# Altium footprint library Power Module.PcbLib: 1 footprints
Each footprint in its own frame and in the unit in brackets; x right, y up, seen from the top. Pads: shape width x height; smd on the part's side, far side on the other; paste and mask are expansions set on the pad; w line width, h text height; cw(c..) or ccw(c..) is an arc to the next point about the centre after c.
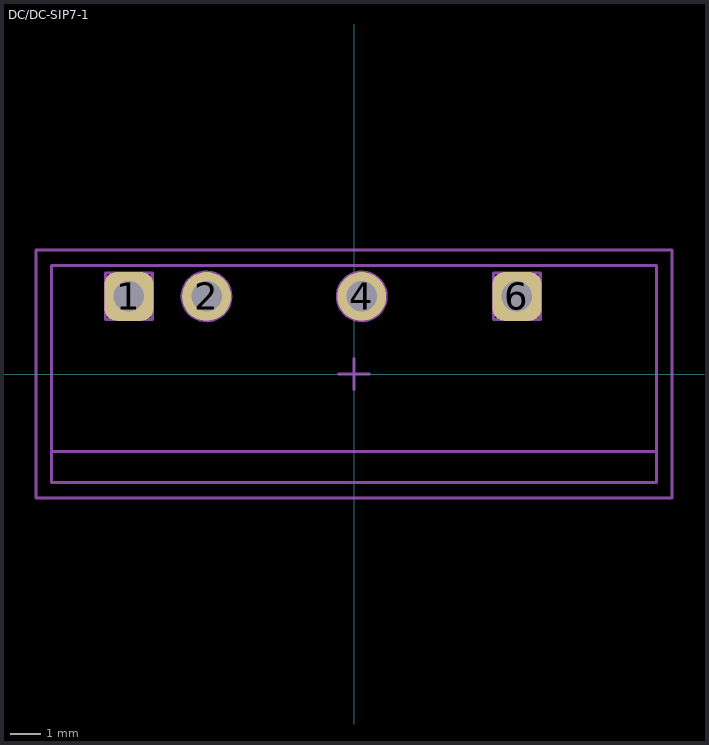
[diagram p0: the footprint, top view; thin cyan lines are the x and y axes]

## DC/DC-SIP7-1 [mm] "DC/DC-module SIP7 single output"
height 10.14
pads (4):
  rrect50% 1.6x1.6 hole 1: 1(-7.366,2.54) 6(5.334,2.54)
  round 1.6 hole 1: 2(-4.826,2.54) 4(0.254,2.54)
Mechanical 13:
  lines w0.1: -9.906,-2.54 9.906,-2.54 ; -9.906,-3.556 9.906,-3.556 9.906,3.556 -9.906,3.556 -9.906,-3.556
Mechanical 14:
  circle w0.1: c0.254,2.54 r0.8
  circle w0.1: c-4.826,2.54 r0.8
  lines w0.1: -8.128,1.778 -8.128,3.302 -6.604,3.302 -6.604,1.778 -8.128,1.778 ; 4.572,1.778 4.572,3.302 6.096,3.302 6.096,1.778 4.572,1.778
Mechanical 15:
  lines w0.1: -0.508,0 0.508,0 ; 0,-0.508 0,0.508 ; -10.414,-4.064 10.414,-4.064 10.414,4.064 -10.414,4.064 -10.414,-4.064
3D body: height 10.2, standoff 0, extent -9.906,-3.556 9.906,3.556